# Altium schematic symbol library Worldskills Pre-Comp Lib.SchLib: 2 symbols
Pins are listed as number, name and electrical type; pins without a type are passive.

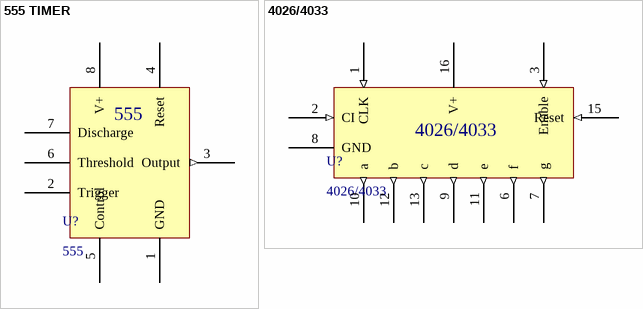
[diagram p0: symbols 555 TIMER to 4026/4033]

## 555 TIMER
designator U?, comment 555
footprint 555
pins: 1 GND (power), 2 Trigger, 3 Output (out), 4 Reset, 5 Control, 6 Threshold, 7 Discharge, 8 V+ (power)

## 4026/4033
designator U?
footprint 4026/4033
pins: 1 CLK (in), 2 CI (in), 3 Enable (in), 6 f (out), 7 g (out), 8 GND (power), 9 d (out), 10 a (out), 11 e (out), 12 b (out), 13 c (out), 15 Reset (in), 16 V+ (power)